# Altium integrated library SS34-E3_57T.IntLib: 1 symbol
Pins are listed as number, name and electrical type; pins without a type are passive.

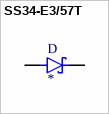
[diagram p0: symbol SS34-E3/57T]

## SS34-E3/57T
designator D
Diode Schottky 40V 3A Surface Mount DO-214AB _SMC_; MP: SS34-E3/57T; MF: Vishay; Availability: Unavailable; SnapEDA_Link: https://www.snapeda.com/parts/SS34-E3/57T/Vishay%20Semiconductor%20Diodes%20Division/view-part/104253/?ref=snap; Package: DO-214 Vishay; Value: *; Price: None
footprint DIOM7959X262N
pins: A, C